# Altium schematic symbol library DIODES.SchLib: 39 symbols
Pins are listed as number, name and electrical type; pins without a type are passive.

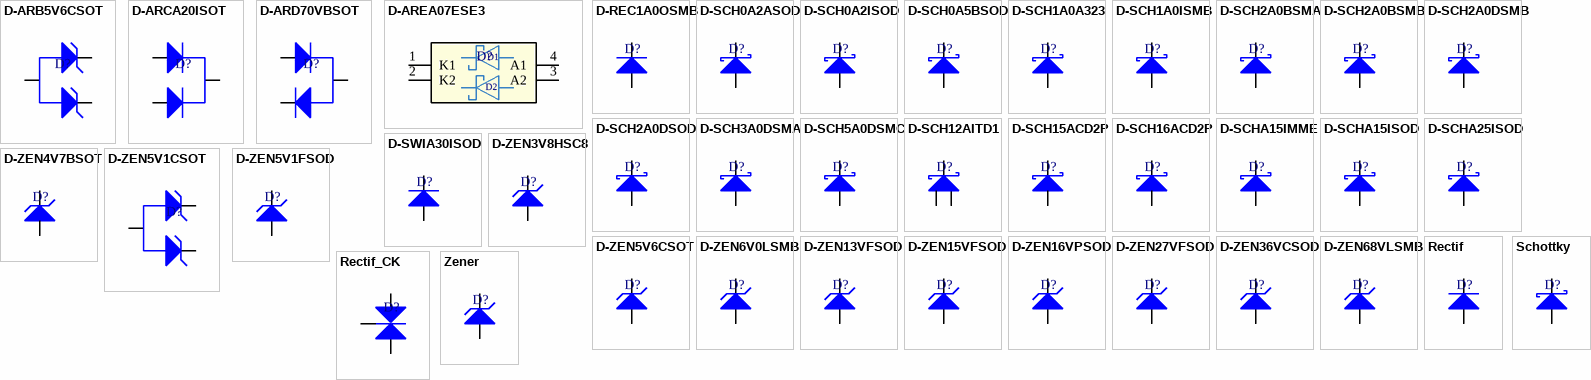
[diagram p0: symbols D-ARB5V6CSOT to Zener]

## D-ARB5V6CSOT
designator D?
Zener Diode Array 1 Pair Common Anode 5.6 V 300 mW ±2% TO-236AB; Manufacturer Part Number: BZB84-B5V6,215; Manufacturer: Nexperia USA Inc.; Working Temperature: -55°C ~ 150°C (TA); Temperature Coefficient: NC; Short Description: DIODE ZENER ARRAY 5.6V SOT23; Power: 300mW; Ratings: REACH, ROHS3; Current: 1 µA @ 2 V; Voltage: 900 mV @ 10 mA; Value: 5.6; Mounting: SMT; Type: Zener; Frequency: NC; Alternate Part Number 2: *; Tolerance: ±2%; Revision Date: 03/08/21; Package Reference: SOT-23-3
footprint SOT-23-3
pins: 1 K, 2 K, 3 A

## D-ARCA20ISOT
designator D?
Diode Array 1 Pair Common Cathode Standard 100 V 215mA (DC) Surface Mount TO-236-3, SC-59, SOT-23-3; Manufacturer Part Number: BAV70; Manufacturer: Rectron USA; Working Temperature: -55°C ~ 150°C; Temperature Coefficient: NC; Short Description: DUAL SWITCHING DIODE COM CATHOD; Ratings: ROHS3; Type: Rectifier; Voltage: 100V; Value: NC; Mounting: SMT; Power: NC; Frequency: NC; Alternate Part Number 2: *; Tolerance: NC; Current: 215mA; Revision Date: 03/08/21; Package Reference: SOT-23-3
footprint SOT-23-3
pins: 1 A, 2 A, 3 K

## D-ARD70VBSOT
designator D?
Diode Array 1 Pair Series Connection 70 V 215mA (DC) Surface Mount TO-236-3, SC-59, SOT-23-3; Manufacturer Part Number: BAV199LT1G; Alternate Part Number 2: CADA DIODO; Manufacturer: onsemi; Working Temperature: -65°C ~ 150°C; Temperature Coefficient: NC; Short Description: DIODE ARRAY GP 70V 215MA SOT23-3; Power: 225mW; Ratings: ROHS3; Voltage: 70V; Value: NC; Mounting: SMT; Type: NC; Frequency: NC; Tolerance: NC; Current: 215mA; Revision Date: 23/04/23; Package Reference: SOT-23-3
footprint SOT-23-3
pins: 1 A, 2 K, 3 C

## D-AREA07ESE3
designator D?, comment BAS70-07,215  (value not drawn)
Diode Array 2 Independent Schottky 70 V 70mA (DC) Surface Mount TO-253-4, TO-253AA; Manufacturer: Nexperia USA Inc.; Frequency: NC; Short Description: DIODE ARRAY SCHOTTKY 70V SOT143B; Ratings: ROHS3; Type: SCH; Working Temperature: 150°C (Max); Voltage: 70 V; Value: NC; Manufacturer Part Number: BAS70-07,215; Temperature Coefficient: NC; Mounting: SMT; Power: NC; Alternate Part Number 1: *; Alternate Part Number 2: *; Tolerance: NC; Current: 70 mA; Revision Date: 30/09/22; Package Reference: TO-253-4, TO-253AA
footprint SOT143B_NXP
footprint SOT143B_NXP-L
footprint SOT143B_NXP-M
pins: 1 K1, 2 K2, 3 A2, 4 A1
text: D1; D2

## D-REC1A0OSMB
designator D?
Diode Standard 400 V 1A Surface Mount SMB; Manufacturer Part Number: S1GB-13-F; Manufacturer: Diodes Incorporated; Working Temperature: -65°C ~ 150°C; Temperature Coefficient: NC; Short Description: DIODE GEN PURP 400V 1A SMB; Ratings: REACH, ROHS3; Type: Rectifier; Voltage: 400V; Value: NC; Mounting: SMT; Power: NC; Frequency: NC; Alternate Part Number 1: *; Alternate Part Number 2: *; Tolerance: NC; Current: 1A; Revision Date: 03/08/21; Package Reference: DO-214AA
footprint DO-214AA
pins: 1 K, 2 A

## D-SCH0A2ASOD
designator D?
Diode Schottky 30 V 200mA (DC) Surface Mount SOD-123; Manufacturer Part Number: BAT43W-HE3-08; Manufacturer: Vishay; Frequency: NC; Short Description: DIODE SCHOTTKY 30V 200MA SOD123; Power: 200mW; Ratings: REACH, ROHS3; Type: SCH; Working Temperature: 125°C (Max); Voltage: 30V; Value: NC; Temperature Coefficient: NC; Mounting: SMT; Alternate Part Number 1: *; Alternate Part Number 2: *; Tolerance: NC; Current: 200mA; Revision Date: 24/11/21; Package Reference: SOD-123
footprint SOD-123
pins: 1 K, 2 A

## D-SCH0A2ISOD
designator D?
Diode Schottky 100 V 200mA (DC) Surface Mount SOD-123; Manufacturer Part Number: BAT41ZFILM; Manufacturer: STMicroelectronics; Working Temperature: 150°C (Max); Temperature Coefficient: NC; Short Description: DIODE SCHOTTKY 100V 200MA SOD123; Ratings: REACH, ROHS3; Type: SCH; Voltage: 100V; Value: NC; Mounting: SMT; Power: NC; Frequency: NC; Alternate Part Number 2: *; Tolerance: NC; Current: 200mA; Revision Date: 03/08/21; Package Reference: SOD-123
footprint SOD-123
pins: 1 K, 2 A

## D-SCH0A5BSOD
designator D?
Diode Schottky 40 V 500mA Surface Mount SOD-123; Manufacturer Part Number: MBR0540T1G; Manufacturer: ON Semiconductor; Working Temperature: -55°C ~ 150°C; Temperature Coefficient: NC; Short Description: DIODE SCHOTTKY 40V 500MA SOD123; Ratings: REACH, ROHS3; Type: SCH; Voltage: 40V; Value: NC; Mounting: SMT; Power: NC; Frequency: NC; Alternate Part Number 2: *; Tolerance: NC; Current: 500mA; Revision Date: 03/08/21; Package Reference: SOD-123
footprint SOD-123
pins: 1 K, 2 A

## D-SCH1A0A323
designator D?
Diode Schottky 30 V 1A Surface Mount USC; Manufacturer Part Number: CUS10S30,H3F; Manufacturer: Toshiba Semiconductor and Storage; Working Temperature: 125°C (Max); Temperature Coefficient: NC; Short Description: DIODE SCHOTTKY 30V 1A USC; Ratings: ROHS3; Type: SCH; Voltage: 30V; Value: NC; Mounting: SMT; Power: NC; Frequency: NC; Alternate Part Number 2: *; Tolerance: NC; Current: 1A; Revision Date: 03/08/21; Package Reference: SOD-323
footprint SOD-323
pins: 1 K, 2 A

## D-SCH1A0ISMB
designator D?
Diode Schottky 100 V 1A Surface Mount DO-214AC (SMA); Manufacturer Part Number: VS-10MQ100NTRPBF; Manufacturer: Vishay General Semiconductor - Diodes Division; Working Temperature: -55°C ~ 150°C; Temperature Coefficient: NC; Short Description: DIODE SCHOTTKY 100V 1A SMA; Ratings: REACH, ROHS3; Type: SCH; Voltage: 100V; Value: NC; Mounting: SMT; Power: NC; Frequency: NC; Alternate Part Number 2: *; Tolerance: NC; Current: 1A; Revision Date: 03/08/21; Package Reference: DO-214AC
footprint DO-214AC-SMALL (Manufacturer: Vishay)
pins: 1 K, 2 A

## D-SCH2A0BSMA
designator D?
Diode Schottky 2A Surface Mount DO-214AC (SMA); Manufacturer Part Number: CD214A-B240LLF; Manufacturer: Bourns Inc.; Working Temperature: -55°C ~ 125°C; Temperature Coefficient: NC; Short Description: DIODE SCHOTTKY 40V 2A SMA; Ratings: REACH, ROHS3; Type: SCH; Voltage: 40V; Value: NC; Mounting: SMT; Power: NC; Frequency: NC; Alternate Part Number 2: *; Tolerance: NC; Current: 2A; Revision Date: 03/08/21; Package Reference: DO-214AC
footprint DO-214AC-BIG (Manufacturer: BOURNS)
pins: 1 K, 2 A

## D-SCH2A0BSMB
designator D?
Diode Schottky 40 V 2A Surface Mount SMB; Manufacturer Part Number: STPS2L40U; Manufacturer: STMicroelectronics; Working Temperature: 150°C (Max); Temperature Coefficient: NC; Short Description: DIODE SCHOTTKY 40V 2A SMB; Ratings: REACH, ROHS3; Type: SCH; Voltage: 40V; Value: NC; Mounting: SMT; Power: NC; Frequency: NC; Alternate Part Number 2: *; Tolerance: NC; Current: 2A; Revision Date: 03/08/21; Package Reference: DO-214AA
footprint DO-214AA
pins: 1 K, 2 A

## D-SCH2A0DSMB
designator D?
Diode Schottky 60 V 2A Surface Mount SMBflat; Manufacturer Part Number: STPS2L60UF; Manufacturer: STMicroelectronics; Working Temperature: 150°C (Max); Temperature Coefficient: NC; Short Description: DIODE SCHOTTKY 60V 2A SMBFLAT; Ratings: REACH, ROHS3; Type: SCH; Voltage: 60V; Value: NC; Mounting: SMT; Power: NC; Frequency: NC; Alternate Part Number 2: *; Tolerance: NC; Current: 2A; Revision Date: 03/08/21; Package Reference: DO-221AA
footprint DO-221AA
pins: 1 K, 2 A

## D-SCH2A0DSOD
designator D?
Diode Schottky 60 V 2A Surface Mount PMDU; Manufacturer Part Number: RB060M-60TR; Manufacturer: Rohm Semiconductor; Working Temperature: 150°C (Max); Temperature Coefficient: NC; Short Description: DIODE SCHOTTKY 60V 2A PMDU; Ratings: ROHS3; Type: SCH; Voltage: 60V; Value: NC; Mounting: SMT; Power: NC; Frequency: NC; Alternate Part Number 2: *; Tolerance: NC; Current: 2A; Revision Date: 03/08/21; Package Reference: SOD-123F
footprint SOD-123F
pins: 1 K, 2 A

## D-SCH3A0DSMA
designator D?  (value not drawn)
Diode Schottky 60 V 3A Surface Mount SMA; Manufacturer Part Number: B360A-13-F; Manufacturer: Diodes Incorporated; Working Temperature: -55°C ~ 150°C; Temperature Coefficient: NC; Short Description: DIODE SCHOTTKY 60V 3A SMA; Ratings: REACH, ROHS3; Type: SCH; Voltage: 60V; Value: NC; Mounting: SMT; Power: NC; Frequency: NC; Alternate Part Number 2: *; Tolerance: NC; Current: 3A; Revision Date: 03/08/21; Package Reference: DO-214AC
footprint DO-214AC-BIG (Manufacturer: BOURNS)
pins: 1 K, 2 A

## D-SCH5A0DSMC
designator D?
Diode Schottky 60 V 5A Surface Mount SMC; Manufacturer Part Number: B560C-13-F; Manufacturer: Diodes Incorporated; Working Temperature: -55°C ~ 150°C; Temperature Coefficient: NC; Short Description: DIODE SCHOTTKY 60V 5A SMC; Ratings: ROHS3; Type: SCH; Voltage: 60V; Value: NC; Mounting: SMT; Power: NC; Frequency: NC; Alternate Part Number 2: *; Tolerance: NC; Current: 5A; Revision Date: 03/08/21; Package Reference: DO-214AB
footprint DO-214AB
pins: 1 K, 2 A

## D-SCH12AITD1
designator D?
Diode Schottky 100 V 12A Surface Mount TO-277-3; Manufacturer Part Number: FSV12100V; Manufacturer: onsemi; Working Temperature: -55°C ~ 150°C; Temperature Coefficient: NC; Short Description: DIODE SCHOTTKY 100V 12A TO277-3; Ratings: REACH, ROHS3; Type: SCH; Voltage: 100V; Value: NC; Mounting: SMT; Power: NC; Frequency: NC; Alternate Part Number 2: *; Tolerance: NC; Current: 12A; Revision Date: 20/09/21; Package Reference: TO277-3
footprint TO-227-3
pins: 1 A1, 2 A2, 3 K

## D-SCH15ACD2P
designator D?  (value not drawn)
Diode 30 V 15A Surface Mount DDPAK/TO-263-3; Manufacturer Part Number: SM74611KTTR; Manufacturer: Texas Instruments; Working Temperature: -65°C ~ 175°C; Temperature Coefficient: NC; Short Description: DIODE GP 30V 15A DDPAK/TO-263-3; Ratings: REACH, ROHS3; Type: SCH; Voltage: 30V; Vf: 26mV@8A; Mounting: SMT; Power: NC; Frequency: NC; Alternate Part Number 2: *; Tolerance: NC; Current: 15A; Revision Date: 20/09/21; Package Reference: TO-263-3, D²Pak (2 Leads + Tab), TO-263AB
footprint D2PAK (D2-PAK/TO-263-AB; 3 Leads (1 Cropped); Body 15.5 (inc. leads) x 10.5 mm (LxW max))
pins: 1 A2, 2 K, 3 A1

## D-SCH16ACD2P
designator D?  (value not drawn)
Diode Schottky 45 V 16A Surface Mount D²PAK; Manufacturer Part Number: MBRB1645T4G; Manufacturer: onsemi; Working Temperature: -65°C ~ 175°C; Temperature Coefficient: NC; Short Description: DIODE SCHOTTKY 45V 16A D2PAK; Ratings: REACH, ROHS3; Type: SCH; Voltage: 45V; Value: NC; Mounting: SMT; Power: NC; Frequency: NC; Alternate Part Number 2: *; Tolerance: NC; Current: 16a; Revision Date: 20/09/21; Package Reference: TO-263-3, D²Pak (2 Leads + Tab), TO-263AB
footprint D2PAK (D2-PAK/TO-263-AB; 3 Leads (1 Cropped); Body 15.5 (inc. leads) x 10.5 mm (LxW max))
pins: 1 A2, 2 K, 3 A1

## D-SCHA15IMME
designator D?
Diode Schottky 100 V 150mA (DC) Surface Mount Mini MELF; Manufacturer Part Number: TMMBAT46FILM; Manufacturer: STMicroelectronics; Working Temperature: -65°C ~ 125°C; Temperature Coefficient: NC; Short Description: DIODE SCHOTTKY 100V 150MA MINMLF; Ratings: REACH, ROHS3; Type: SCH; Voltage: 100V; Value: NC; Mounting: SMT; Power: NC; Frequency: NC; Alternate Part Number 2: *; Tolerance: NC; Current: 150mA; Revision Date: 03/08/21; Package Reference: DO-213AA
footprint DO-213AA
pins: 1 K, 2 A

## D-SCHA15ISOD
designator D?
Diode Schottky 100 V 150mA (DC) Surface Mount SOD-123; Manufacturer Part Number: BAT46ZFILM; Manufacturer: STMicroelectronics; Working Temperature: -65°C ~ 125°C; Temperature Coefficient: NC; Short Description: DIODE SCHOTTKY 100V 150MA SOD123; Ratings: REACH, ROHS3; Type: SCH; Voltage: 100V; Value: NC; Mounting: SMT; Power: NC; Frequency: NC; Alternate Part Number 2: *; Tolerance: NC; Current: 150mA; Revision Date: 23/08/21; Package Reference: SOD-123
footprint SOD-123
pins: 1 K, 2 A

## D-SCHA25ISOD
designator D?
Diode Schottky 100 V 250mA Surface Mount SOD-123; Manufacturer Part Number: BAT46GWJ; Manufacturer: Nexperia USA Inc.; Working Temperature: -55°C ~ 150°C; Temperature Coefficient: NC; Short Description: DIODE SCHOTTKY 100V 250MA SOD123; Ratings: REACH, ROHS3, AEC-Q101; Type: SCH; Voltage: 100V; Value: NC; Mounting: SMT; Power: NC; Frequency: NC; Alternate Part Number 1: *; Alternate Part Number 2: *; Tolerance: NC; Current: 250mA; Revision Date: 14/06/23; Package Reference: SOD-123; ComponentLink1Description: Datasheet; ComponentLink1URL: https://assets.nexperia.com/documents/data-sheet/BAT46GW.pdf
footprint SOD-123
pins: 1 K, 2 A

## D-SWIA30ISOD
designator D?
Diode Standard 100 V 150mA Surface Mount SOD-123; Manufacturer Part Number: 1N4148W-7-F; Manufacturer: Diodes Incorporated; Working Temperature: -65°C ~ 150°C; Temperature Coefficient: NC; Short Description: DIODE GEN PURP 100V 150MA SOD123; Ratings: REACH, ROHS3; Type: Rectifier; Voltage: 100V; Value: NC; Mounting: SMT; Power: NC; Frequency: NC; Alternate Part Number 2: *; Tolerance: NC; Current: 150mA; Revision Date: 03/08/21; Package Reference: SOD-123
footprint SOD-123
pins: 1 K, 2 A

## D-ZEN3V8HSC8
designator D?
Zener Diode 3.8 V 1 W ±5.26% Surface Mount PMDTM; Manufacturer Part Number: PDZVTR3.6B; Manufacturer: Rohm Semiconductor; Frequency: NC; Short Description: DIODE ZENER 3.8V 1W PMDTM; Power: 1W; Ratings: ROHS3; Working Temperature: 150°C (TJ); Current: ND; Voltage: 750mV @ 20mA; Value: 3.8V; Temperature Coefficient: NC; Mounting: SMT; Type: Zener; Alternate Part Number 1: *; Alternate Part Number 2: *; Tolerance: ±5.26%; Revision Date: 02/09/21; Package Reference: SOD-128
footprint SOD-128
pins: 1 K, 2 A

## D-ZEN4V7BSOT
designator D?
Zener Diode 4.7 V 225 mW ±6% Surface Mount SOT-23-3 (TO-236); Manufacturer Part Number: BZX84C4V7LT1G; Manufacturer: onsemi; Short Description: DIODE ZENER 4.7V 250MW SOT23-3; Power: 250 mW; Ratings: ROHS3, REACH, EAR99; Working Temperature: -65°C ~ 150°C (TJ); Current: 3 µA @ 2 V; Voltage: 900 mV @ 10 mA; Value: 4.7 V; Frequency: *; Temperature Coefficient: *; Mounting: SMD; Type: Zener; Alternate Part Number 1: *; Alternate Part Number 2: *; Tolerance: ±6%; Revision Date: 23/06/2023; Package Reference: SOT-23-3; ComponentLink1Description: Datasheet; ComponentLink1URL: https://www.onsemi.com/pdf/datasheet/bzx84c2v4lt1-d.pdf
footprint SOT-23-3
pins: 1 A, 3 K

## D-ZEN5V1CSOT
designator D?
Zener Diode Array 1 Pair Common Anode 5.1 V 300 mW ±2% TO-236AB; Manufacturer Part Number: BZB84-B5V1,215; Manufacturer: Nexperia USA Inc.; Working Temperature: ND; Temperature Coefficient: NC; Short Description: DIODE ZENER ARRAY 5.1V SOT23; Power: 300mW; Ratings: REACH, ROHS3; Current: 2 µA @ 2 V; Voltage: 900 mV @ 10 mA; Value: 5.1; Mounting: SMT; Type: Zener; Frequency: NC; Alternate Part Number 2: *; Tolerance: ±2%; Revision Date: 03/08/21; Package Reference: SOT-23-3
footprint SOT-23-3
pins: 1 K, 2 K, 3 A

## D-ZEN5V1FSOD
designator D?
Zener Diode 5.1 V 500 mW ±5% Surface Mount SOD-123; Manufacturer Part Number: MMSZ5231B-7-F; Manufacturer: Diodes Incorporated; Working Temperature: -65°C ~ 150°C; Temperature Coefficient: NC; Short Description: DIODE ZENER 5.1V 500MW SOD123; Power: 500mW; Ratings: REACH, ROHS3; Current: 5 µA @ 2 V; Voltage: 900 mV @ 10 mA; Value: 5.1; Mounting: SMT; Type: Zener; Frequency: NC; Alternate Part Number 2: *; Tolerance: ±5%; Revision Date: 15/03/22; Package Reference: SOD-123
footprint SOD-123
pins: 1 K, 2 A

## D-ZEN5V6CSOT
designator D?
Zener Diode 5.6 V 350 mW ±7% Surface Mount SOT-23-3; Manufacturer Part Number: BZX84C5V6; Manufacturer: ON Semiconductor; Working Temperature: -55°C ~ 150°C; Temperature Coefficient: NC; Short Description: DIODE ZENER 5.6V 350MW SOT23-3; Power: 350mW; Ratings: REACH; Current: 1 µA @ 2 V; Voltage: 900 mV @ 10 mA; Value: 5.6; Mounting: SMT; Type: Zener; Frequency: NC; Alternate Part Number 2: *; Tolerance: ±7%; Revision Date: 03/08/21; Package Reference: SOT-23-3
footprint SOT-23-3
pins: 1 A, 3 K

## D-ZEN6V0LSMB
designator D?  (value not drawn)
Zener Diode 6 V 5 W ±5% Surface Mount DO-214AA (SMB); Manufacturer Part Number: CZRB5340B-HF; Manufacturer: Comchip Technology; Working Temperature: -55°C ~ 150°C; Temperature Coefficient: NC; Short Description: DIODE ZENER 6V 5W DO214AA; Power: 5 W; Ratings: REACH, ROHS3; Current: 1 µA @ 3 V; Voltage: 1.2 V @ 200 mA; Value: 6 V; Mounting: SMT; Type: Zener; Frequency: NC; Alternate Part Number 2: *; Tolerance: ±5%; Revision Date: 03/08/21; Package Reference: DO-214AA
footprint DO-214AA
pins: 1 K, 2 A

## D-ZEN13VFSOD
designator D?
Zener Diode 13 V 500 mW ±6% Surface Mount SOD-123; Manufacturer Part Number: MMSZ13T1G; Manufacturer: onsemi; Working Temperature: -55°C ~ 150°C; Temperature Coefficient: NC; Short Description: DIODE ZENER 13V 500MW SOD123; Power: 500mW; Ratings: REACH, ROHS3; Current: 100 nA @ 10.5 V; Voltage: 900 mV @ 10 mA; Value: 13; Mounting: SMT; Type: Zener; Frequency: NC; Alternate Part Number 2: *; Tolerance: ±6%; Revision Date: 04/08/22; Package Reference: SOD-123
footprint SOD-123
pins: 1 K, 2 A

## D-ZEN15VFSOD
designator D?
Zener Diode 15 V 500 mW ±6% Surface Mount SOD-123; Manufacturer Part Number: BZT52C15-7-F; Manufacturer: Diodes Incorporated; Working Temperature: -65°C ~ 150°C; Temperature Coefficient: NC; Short Description: DIODE ZENER 15V 500MW SOD123; Power: 500mW; Ratings: REACH, ROHS3; Current: 100 nA @ 10.5 V; Voltage: 900 mV @ 10 mA; Value: 15; Mounting: SMT; Type: Zener; Frequency: NC; Alternate Part Number 2: *; Tolerance: ±6%; Revision Date: 03/08/21; Package Reference: SOD-123
footprint SOD-123
pins: 1 K, 2 A

## D-ZEN16VPSOD
designator D?
Zener Diode 16 V 590 mW ±1.88% Surface Mount SOD-123; Manufacturer Part Number: BZT52-B16J; Manufacturer: Nexperia USA Inc.; Working Temperature: -55°C ~ 150°C (TA); Temperature Coefficient: NC; Short Description: DIODE ZENER 16V 590MW SOD123; Power: 590mW; Ratings: REACH, ROHS3; Current: 50 nA @ 11.2 V; Voltage: 900 mV @ 10 mA; Value: 16; Mounting: SMT; Type: Zener; Frequency: NC; Alternate Part Number 2: *; Tolerance: ±1.88%; Revision Date: 03/08/21; Package Reference: SOD-123
footprint SOD-123
pins: 1 K, 2 A

## D-ZEN27VFSOD
designator D?
Zener Diode 27 V 500 mW ±5% Surface Mount SOD-123; Manufacturer Part Number: MMSZ4711T1G; Manufacturer: onsemi; Working Temperature: -55°C ~ 150°C; Temperature Coefficient: NC; Short Description: DIODE ZENER 27V 500MW SOD123; Power: 500mW; Ratings: REACH, ROHS3; Tolerance: ±6%; Current: 10 nA @ 20.4 V; Voltage: 900 mV @ 10 mA; Value: 27; Mounting: SMT; Type: Zener; Frequency: NC; Alternate Part Number 2: *; Revision Date: 04/08/22; Package Reference: SOD-123
footprint SOD-123
pins: 1 K, 2 A

## D-ZEN36VCSOD
designator D?
Zener Diode 36 V 310 mW ±2.5% Surface Mount SOD-123; Manufacturer Part Number: DDZ36-7; Manufacturer: Diodes Incorporated; Working Temperature: -65°C ~ 150°C; Temperature Coefficient: NC; Short Description: DIODE ZENER 36V 310MW SOD123; Power: 310mW; Ratings: REACH, ROHS3; Current: 50 nA @ 30 V; Voltage: 900 mV @ 10 mA; Value: 36; Mounting: SMT; Type: Zener; Frequency: NC; Alternate Part Number 2: *; Tolerance: ±2.5%; Revision Date: 03/08/21; Package Reference: SOD-123
footprint SOD-123
pins: 1 K, 2 A

## D-ZEN68VLSMB
designator D?
Zener Diode 68 V 3 W ±5% Surface Mount SMB; Manufacturer Part Number: 1SMB5945BT3G; Manufacturer: ON Semiconductor; Working Temperature: -65°C ~ 150°C; Temperature Coefficient: NC; Short Description: DIODE ZENER 68V 3W SMB; Power: 3W; Ratings: REACH, ROHS3; Current: 1 µA @ 51.7 V; Voltage: 1.5 V @ 200 mA; Value: 68; Mounting: SMT; Type: Zener; Frequency: NC; Alternate Part Number 2: *; Tolerance: ±5%; Revision Date: 03/08/21; Package Reference: DO-214AA
footprint DO-214AA
pins: 1 K, 2 A

## Rectif
designator D?
Manufacturer Part Number: *; Frequency: *; Temperature Coefficient: *; Mounting: *; Short Description: *; Power: *; Ratings: *; Type: *; Working Temperature: *; Alternate Part Number 1: *; Alternate Part Number 2: *; Manufacturer: *; Tolerance: *; Current: *; Revision Date: *; Package Reference: *; Voltage: *; Value: *
pins: 1 K, 2 A

## Rectif_CK
designator D?
Manufacturer Part Number: *; Frequency: *; Temperature Coefficient: *; Mounting: *; Short Description: *; Power: *; Ratings: *; Type: *; Working Temperature: *; Alternate Part Number 1: *; Alternate Part Number 2: *; Manufacturer: *; Tolerance: *; Current: *; Revision Date: *; Package Reference: *; Voltage: *; Value: *
pins: 1 A, 2 A, 3 K

## Schottky
designator D?
Manufacturer Part Number: *; Frequency: *; Temperature Coefficient: *; Mounting: *; Short Description: *; Power: *; Ratings: *; Type: *; Working Temperature: *; Alternate Part Number 1: *; Alternate Part Number 2: *; Manufacturer: *; Tolerance: *; Current: *; Revision Date: *; Package Reference: *; Voltage: *; Value: *
pins: 1 K, 2 A

## Zener
designator D?
Manufacturer Part Number: *; Frequency: *; Temperature Coefficient: *; Mounting: *; Short Description: *; Power: *; Ratings: *; Type: *; Working Temperature: *; Alternate Part Number 1: *; Alternate Part Number 2: *; Manufacturer: *; Tolerance: *; Current: *; Revision Date: *; Package Reference: *; Voltage: *; Value: *
pins: 1 K, 2 A